# Altium footprint library EEM_FMC_Carrier.PcbLib: 109 footprints (part 2 of 7)
Each footprint in its own frame and in the unit in brackets; x right, y up, seen from the top. Pads: shape width x height; smd on the part's side, far side on the other; paste and mask are expansions set on the pad; w line width, h text height; cw(c..) or ccw(c..) is an arc to the next point about the centre after c.
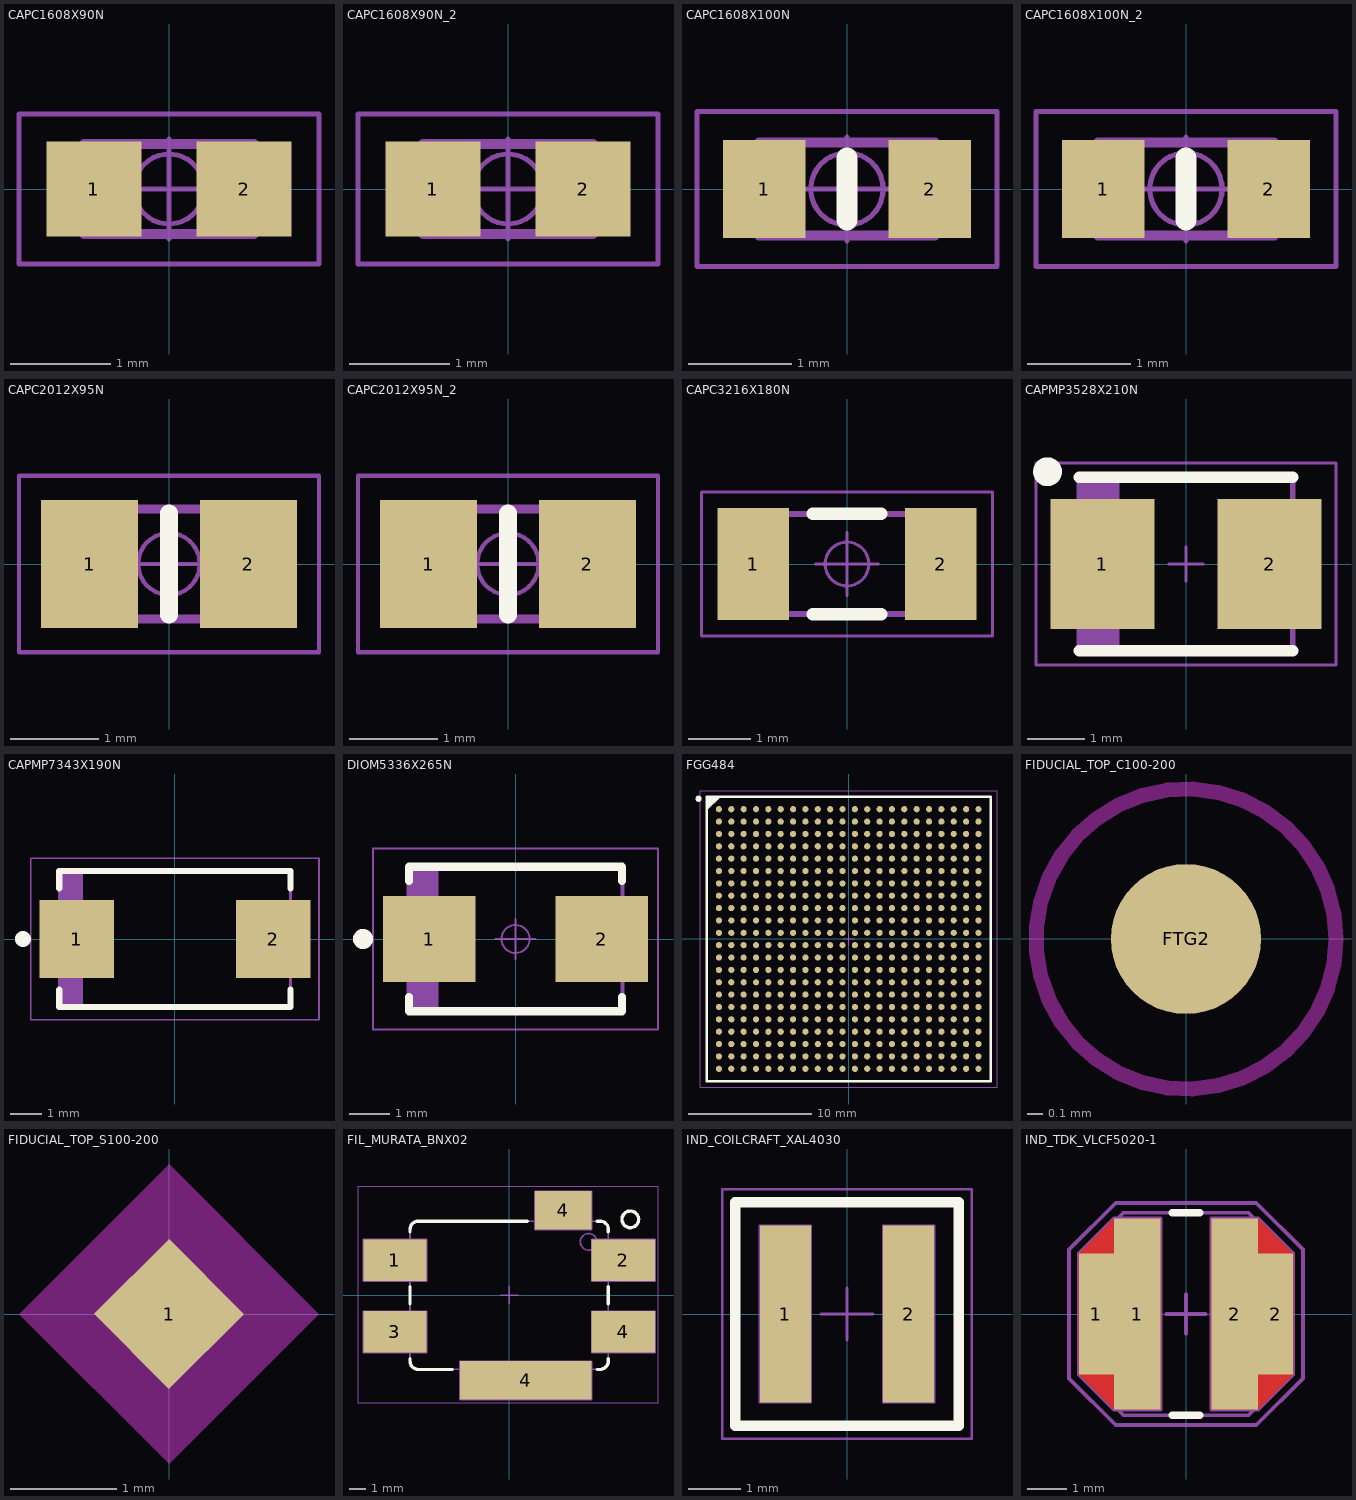
[diagram p1: the footprints below, top view; thin cyan lines are the x and y axes]

## CAPC1608X90N [mm]
pads (2):
  rect 0.95x0.95 smd: 1(-0.75,0) 2(0.75,0)
Mechanical 14:
  lines w0.1: -0.85,-0.45 -0.85,0.45 0.85,0.45 0.85,-0.45 -0.85,-0.45
Mechanical 15:
  circle w0.05: c0,0 r0.35
  lines w0.05: -0.5,0 0.5,0 ; 0,-0.5 0,0.5 ; -1.5,-0.75 -1.5,0.75 1.5,0.75 1.5,-0.75 -1.5,-0.75
3D body "CAPC1608X90N.stp": height 0.9, standoff 0, extent -0.85,-0.45 0.85,0.45

## CAPC1608X90N_2 [mm]
pads (2):
  rect 0.95x0.95 smd: 1(-0.75,0) 2(0.75,0)
Mechanical 14:
  lines w0.1: -0.85,-0.45 -0.85,0.45 0.85,0.45 0.85,-0.45 -0.85,-0.45
Mechanical 15:
  circle w0.05: c0,0 r0.35
  lines w0.05: -0.5,0 0.5,0 ; 0,-0.5 0,0.5 ; -1.5,-0.75 -1.5,0.75 1.5,0.75 1.5,-0.75 -1.5,-0.75
3D body "CAPC1608X90N.stp": height 0.9, standoff 0, extent -0.85,-0.45 0.85,0.45

## CAPC1608X100N [mm]
pads (2):
  rect 0.8x0.95 smd: 1(-0.8,0) 2(0.8,0)
Top Overlay:
  lines w0.2: 0,-0.3 0,0.3
Mechanical 14:
  lines w0.1: -0.85,-0.45 -0.85,0.45 0.85,0.45 0.85,-0.45 -0.85,-0.45
Mechanical 15:
  circle w0.05: c0,0 r0.35
  lines w0.05: -0.5,0 0.5,0 ; 0,-0.5 0,0.5 ; -1.45,-0.75 -1.45,0.75 1.45,0.75 1.45,-0.75 -1.45,-0.75
3D body "CAPC1608X100N.stp": height 1, standoff 0, extent -0.85,-0.45 0.85,0.45

## CAPC1608X100N_2 [mm]
pads (2):
  rect 0.8x0.95 smd: 1(-0.8,0) 2(0.8,0)
Top Overlay:
  lines w0.2: 0,-0.3 0,0.3
Mechanical 14:
  lines w0.1: -0.85,-0.45 0.85,-0.45 0.85,0.45 -0.85,0.45 -0.85,-0.45
Mechanical 15:
  circle w0.05: c0,0 r0.35
  lines w0.05: -0.5,0 0.5,0 ; 0,-0.5 0,0.5 ; -1.45,-0.75 1.45,-0.75 1.45,0.75 -1.45,0.75 -1.45,-0.75
3D body "CAPC1608X100N.stp": height 1, standoff 0, extent -0.85,-0.45 0.85,0.45

## CAPC2012X95N [mm]
pads (2):
  rect 1.1x1.45 smd: 1(-0.9,0) 2(0.9,0)
Top Overlay:
  lines w0.2: 0,-0.575 0,0.575
Mechanical 14:
  lines w0.1: -1,-0.625 1,-0.625 1,0.625 -1,0.625 -1,-0.625
Mechanical 15:
  circle w0.05: c0,0 r0.35
  lines w0.05: -0.5,0 0.5,0 ; 0,-0.5 0,0.5 ; -1.7,-1 1.7,-1 1.7,1 -1.7,1 -1.7,-1
3D body "CAPC2012X95N.stp": height 0.95, standoff 0, extent -1.05,-0.675 1.05,0.675

## CAPC2012X95N_2 [mm]
pads (2):
  rect 1.1x1.45 smd: 1(-0.9,0) 2(0.9,0)
Top Overlay:
  lines w0.2: 0,-0.575 0,0.575
Mechanical 14:
  lines w0.1: -1,-0.625 1,-0.625 1,0.625 -1,0.625 -1,-0.625
Mechanical 15:
  circle w0.05: c0,0 r0.35
  lines w0.05: -0.5,0 0.5,0 ; 0,-0.5 0,0.5 ; -1.7,-1 1.7,-1 1.7,1 -1.7,1 -1.7,-1
3D body "CAPC2012X95N.stp": height 0.95, standoff 0, extent -1.05,-0.675 1.05,0.675

## CAPC3216X180N [mm]
pads (2):
  rect 1.15x1.8 smd: 1(-1.5,0) 2(1.5,0)
Top Overlay:
  lines w0.2: -0.55,-0.8 0.55,-0.8 ; -0.55,0.8 0.55,0.8
Mechanical 14:
  lines w0.1: -1.6,-0.8 1.6,-0.8 1.6,0.8 -1.6,0.8 -1.6,-0.8
Mechanical 15:
  circle w0.05: c0,0 r0.35
  lines w0.05: -0.5,0 0.5,0 ; 0,-0.5 0,0.5 ; -2.325,-1.15 2.325,-1.15 2.325,1.15 -2.325,1.15 -2.325,-1.15
3D body "CAPC3216X180N.stp": height 1.8, standoff 0, extent -1.7,-0.9 1.7,0.9

## CAPMP3528X210N [mm]
pads (2):
  rect 1.8x2.25 smd: 1(-1.45,0) 2(1.45,0)
Top Overlay:
  circle w0.25: c-2.4,1.6 r0.125
  lines w0.2: -1.85,-1.5 1.85,-1.5 ; -1.85,1.5 1.85,1.5
Mechanical 14:
  lines w0.1: -1.8,-1.5 -1.8,1.5 ; -1.725,-1.5 -1.725,1.5 ; -1.65,-1.5 -1.65,1.5 ; -1.575,-1.5 -1.575,1.5 ; -1.5,-1.5 -1.5,1.5 ; -1.425,-1.5 -1.425,1.5 ; -1.35,-1.5 -1.35,1.5 ; -1.275,-1.5 -1.275,1.5 ; -1.2,-1.5 -1.2,1.5 ; -1.85,-1.5 1.85,-1.5 1.85,1.5 -1.85,1.5 -1.85,-1.5
Mechanical 15:
  lines w0.05: -0.3,0 0.3,0 ; 0,-0.3 0,0.3 ; -2.6,-1.75 -2.6,1.75 2.6,1.75 2.6,-1.75 -2.6,-1.75
3D body "CAPMP3528X210N.stp": height 2.1, standoff 0, extent -1.85,-1.5 1.85,1.5

## CAPMP7343X190N [mm]
pads (2):
  rect 2.35x2.45 smd: 1(-3.1,0) 2(3.1,0)
Top Overlay:
  circle w0.25: c-4.8,0 r0.125
  lines w0.2: -3.65,-1.6 -3.65,-2.15 3.65,-2.15 3.65,-1.6 ; -3.65,1.6 -3.65,2.15 3.65,2.15 3.65,1.6
Mechanical 14:
  lines w0.1: -3.55,-2.15 -3.55,2.15 ; -3.45,-2.15 -3.45,2.15 ; -3.35,-2.15 -3.35,2.15 ; -3.25,-2.15 -3.25,2.15 ; -3.15,-2.15 -3.15,2.15 ; -3.05,-2.15 -3.05,2.15 ; -2.95,-2.15 -2.95,2.15 ; -3.65,-2.15 -3.65,2.15 ; -3.65,-2.15 -3.65,2.15 ; -3.65,-2.15 3.65,-2.15 3.65,2.15 -3.65,2.15
Mechanical 15:
  lines w0.05: -4.55,-2.55 -4.55,2.55 4.55,2.55 4.55,-2.55 -4.55,-2.55
3D body "CAPMP7343X190N.stp": height 1.9, standoff 0, extent -3.8,-2.3 3.8,2.3

## DIOM5336X265N [mm]
pads (2):
  rect 2.3x2.15 smd: 1(-2.15,0) 2(2.15,0)
Top Overlay:
  circle w0.25: c-3.8,0 r0.125
  lines w0.2: -2.65,-1.45 -2.65,-1.8 2.65,-1.8 2.65,-1.45 ; -2.65,1.45 -2.65,1.8 2.65,1.8 2.65,1.45
Mechanical 14:
  lines w0.1: -2.57,-1.812 -2.57,1.812 ; -2.47,-1.812 -2.47,1.812 ; -2.37,-1.812 -2.37,1.812 ; -2.27,-1.812 -2.27,1.812 ; -2.17,-1.812 -2.17,1.812 ; -2.07,-1.812 -2.07,1.812 ; -1.97,-1.812 -1.97,1.812 ; -2.67,-1.812 -2.67,1.812 ; -2.67,-1.812 -2.67,1.812 ; -2.67,-1.812 2.67,-1.812 2.67,1.812 -2.67,1.812
Mechanical 15:
  circle w0.05: c0,0 r0.35
  lines w0.05: -0.5,0 0.5,0 ; 0,-0.5 0,0.5 ; -3.55,-2.25 -3.55,2.25 3.55,2.25 3.55,-2.25 -3.55,-2.25
3D body "DIOM5336X240N.stp": height 2.4, standoff 0, extent -2.7,-1.95 2.7,1.95

## FGG484 [mm]
pads (484):
  round 0.5 smd: A1(-10.5,10.5) A2(-9.5,10.5) A3(-8.5,10.5) A4(-7.5,10.5) A5(-6.5,10.5) A6(-5.5,10.5) A7(-4.5,10.5) A8(-3.5,10.5) A9(-2.5,10.5) A10(-1.5,10.5) A11(-0.5,10.5) A12(0.5,10.5) A13(1.5,10.5) A14(2.5,10.5) A15(3.5,10.5) A16(4.5,10.5) A17(5.5,10.5) A18(6.5,10.5) A19(7.5,10.5) A20(8.5,10.5) A21(9.5,10.5) A22(10.5,10.5) AA1(-10.5,-9.5) AA2(-9.5,-9.5) AA3(-8.5,-9.5) AA4(-7.5,-9.5) AA5(-6.5,-9.5) AA6(-5.5,-9.5) AA7(-4.5,-9.5) AA8(-3.5,-9.5) AA9(-2.5,-9.5) AA10(-1.5,-9.5) AA11(-0.5,-9.5) AA12(0.5,-9.5) AA13(1.5,-9.5) AA14(2.5,-9.5) AA15(3.5,-9.5) AA16(4.5,-9.5) AA17(5.5,-9.5) AA18(6.5,-9.5) AA19(7.5,-9.5) AA20(8.5,-9.5) AA21(9.5,-9.5) AA22(10.5,-9.5) AB1(-10.5,-10.5) AB2(-9.5,-10.5) AB3(-8.5,-10.5) AB4(-7.5,-10.5) AB5(-6.5,-10.5) AB6(-5.5,-10.5) AB7(-4.5,-10.5) AB8(-3.5,-10.5) AB9(-2.5,-10.5) AB10(-1.5,-10.5) AB11(-0.5,-10.5) AB12(0.5,-10.5) AB13(1.5,-10.5) AB14(2.5,-10.5) AB15(3.5,-10.5) AB16(4.5,-10.5) AB17(5.5,-10.5) AB18(6.5,-10.5) AB19(7.5,-10.5) AB20(8.5,-10.5) AB21(9.5,-10.5) AB22(10.5,-10.5) B1(-10.5,9.5) B2(-9.5,9.5) B3(-8.5,9.5) B4(-7.5,9.5) B5(-6.5,9.5) B6(-5.5,9.5) B7(-4.5,9.5) B8(-3.5,9.5) B9(-2.5,9.5) B10(-1.5,9.5) B11(-0.5,9.5) B12(0.5,9.5) B13(1.5,9.5) B14(2.5,9.5) B15(3.5,9.5) B16(4.5,9.5) B17(5.5,9.5) B18(6.5,9.5) B19(7.5,9.5) B20(8.5,9.5) B21(9.5,9.5) B22(10.5,9.5) C1(-10.5,8.5) C2(-9.5,8.5) C3(-8.5,8.5) C4(-7.5,8.5) C5(-6.5,8.5) C6(-5.5,8.5) C7(-4.5,8.5) C8(-3.5,8.5) C9(-2.5,8.5) C10(-1.5,8.5) C11(-0.5,8.5) C12(0.5,8.5) C13(1.5,8.5) C14(2.5,8.5) C15(3.5,8.5) C16(4.5,8.5) C17(5.5,8.5) C18(6.5,8.5) C19(7.5,8.5) C20(8.5,8.5) C21(9.5,8.5) C22(10.5,8.5) D1(-10.5,7.5) D2(-9.5,7.5) D3(-8.5,7.5) D4(-7.5,7.5) D5(-6.5,7.5) D6(-5.5,7.5) D7(-4.5,7.5) D8(-3.5,7.5) D9(-2.5,7.5) D10(-1.5,7.5) D11(-0.5,7.5) D12(0.5,7.5) D13(1.5,7.5) D14(2.5,7.5) D15(3.5,7.5) D16(4.5,7.5) D17(5.5,7.5) D18(6.5,7.5) D19(7.5,7.5) D20(8.5,7.5) D21(9.5,7.5) D22(10.5,7.5) E1(-10.5,6.5) E2(-9.5,6.5) E3(-8.5,6.5) E4(-7.5,6.5) E5(-6.5,6.5) E6(-5.5,6.5) E7(-4.5,6.5) E8(-3.5,6.5) E9(-2.5,6.5) E10(-1.5,6.5) E11(-0.5,6.5) E12(0.5,6.5) E13(1.5,6.5) E14(2.5,6.5) E15(3.5,6.5) E16(4.5,6.5) E17(5.5,6.5) E18(6.5,6.5) E19(7.5,6.5) E20(8.5,6.5) E21(9.5,6.5) E22(10.5,6.5) F1(-10.5,5.5) F2(-9.5,5.5) F3(-8.5,5.5) F4(-7.5,5.5) F5(-6.5,5.5) F6(-5.5,5.5) F7(-4.5,5.5) F8(-3.5,5.5) F9(-2.5,5.5) F10(-1.5,5.5) F11(-0.5,5.5) F12(0.5,5.5) F13(1.5,5.5) F14(2.5,5.5) F15(3.5,5.5) F16(4.5,5.5) F17(5.5,5.5) F18(6.5,5.5) F19(7.5,5.5) F20(8.5,5.5) F21(9.5,5.5) F22(10.5,5.5) G1(-10.5,4.5) G2(-9.5,4.5) G3(-8.5,4.5) G4(-7.5,4.5) G5(-6.5,4.5) G6(-5.5,4.5) G7(-4.5,4.5) G8(-3.5,4.5) G9(-2.5,4.5) G10(-1.5,4.5) G11(-0.5,4.5) G12(0.5,4.5) G13(1.5,4.5) G14(2.5,4.5) G15(3.5,4.5) G16(4.5,4.5) G17(5.5,4.5) G18(6.5,4.5) G19(7.5,4.5) G20(8.5,4.5) G21(9.5,4.5) G22(10.5,4.5) H1(-10.5,3.5) H2(-9.5,3.5) H3(-8.5,3.5) H4(-7.5,3.5) H5(-6.5,3.5) H6(-5.5,3.5) H7(-4.5,3.5) H8(-3.5,3.5) H9(-2.5,3.5) H10(-1.5,3.5) H11(-0.5,3.5) H12(0.5,3.5) H13(1.5,3.5) H14(2.5,3.5) H15(3.5,3.5) H16(4.5,3.5) H17(5.5,3.5) H18(6.5,3.5) H19(7.5,3.5) H20(8.5,3.5) H21(9.5,3.5) H22(10.5,3.5) J1(-10.5,2.5) J2(-9.5,2.5) J3(-8.5,2.5) J4(-7.5,2.5) J5(-6.5,2.5) J6(-5.5,2.5) J7(-4.5,2.5) J8(-3.5,2.5) J9(-2.5,2.5) J10(-1.5,2.5) J11(-0.5,2.5) J12(0.5,2.5) J13(1.5,2.5) J14(2.5,2.5) J15(3.5,2.5) J16(4.5,2.5) J17(5.5,2.5) J18(6.5,2.5) J19(7.5,2.5) J20(8.5,2.5) J21(9.5,2.5) J22(10.5,2.5) K1(-10.5,1.5) K2(-9.5,1.5) K3(-8.5,1.5) K4(-7.5,1.5) K5(-6.5,1.5) K6(-5.5,1.5) K7(-4.5,1.5) K8(-3.5,1.5) K9(-2.5,1.5) K10(-1.5,1.5) K11(-0.5,1.5) K12(0.5,1.5) K13(1.5,1.5) K14(2.5,1.5) K15(3.5,1.5) K16(4.5,1.5) K17(5.5,1.5) K18(6.5,1.5) K19(7.5,1.5) K20(8.5,1.5) K21(9.5,1.5) K22(10.5,1.5) L1(-10.5,0.5) L2(-9.5,0.5) L3(-8.5,0.5) L4(-7.5,0.5) L5(-6.5,0.5) L6(-5.5,0.5) L7(-4.5,0.5) L8(-3.5,0.5) L9(-2.5,0.5) L10(-1.5,0.5) L11(-0.5,0.5) L12(0.5,0.5) L13(1.5,0.5) L14(2.5,0.5) L15(3.5,0.5) L16(4.5,0.5) L17(5.5,0.5) L18(6.5,0.5) L19(7.5,0.5) L20(8.5,0.5) L21(9.5,0.5) L22(10.5,0.5) M1(-10.5,-0.5) M2(-9.5,-0.5) M3(-8.5,-0.5) M4(-7.5,-0.5) M5(-6.5,-0.5) M6(-5.5,-0.5) M7(-4.5,-0.5) M8(-3.5,-0.5) M9(-2.5,-0.5) M10(-1.5,-0.5) M11(-0.5,-0.5) M12(0.5,-0.5) M13(1.5,-0.5) M14(2.5,-0.5) M15(3.5,-0.5) M16(4.5,-0.5) M17(5.5,-0.5) M18(6.5,-0.5) M19(7.5,-0.5) M20(8.5,-0.5) M21(9.5,-0.5) M22(10.5,-0.5) N1(-10.5,-1.5) N2(-9.5,-1.5) N3(-8.5,-1.5) N4(-7.5,-1.5) N5(-6.5,-1.5) N6(-5.5,-1.5) N7(-4.5,-1.5) N8(-3.5,-1.5) N9(-2.5,-1.5) N10(-1.5,-1.5) N11(-0.5,-1.5) N12(0.5,-1.5) N13(1.5,-1.5) N14(2.5,-1.5) N15(3.5,-1.5) N16(4.5,-1.5) N17(5.5,-1.5) N18(6.5,-1.5) N19(7.5,-1.5) N20(8.5,-1.5) N21(9.5,-1.5) N22(10.5,-1.5) P1(-10.5,-2.5) P2(-9.5,-2.5) P3(-8.5,-2.5) P4(-7.5,-2.5) P5(-6.5,-2.5) P6(-5.5,-2.5) P7(-4.5,-2.5) P8(-3.5,-2.5) P9(-2.5,-2.5) P10(-1.5,-2.5) P11(-0.5,-2.5) P12(0.5,-2.5) P13(1.5,-2.5) P14(2.5,-2.5) P15(3.5,-2.5) P16(4.5,-2.5) P17(5.5,-2.5) P18(6.5,-2.5) P19(7.5,-2.5) P20(8.5,-2.5) P21(9.5,-2.5) P22(10.5,-2.5) R1(-10.5,-3.5) R2(-9.5,-3.5) R3(-8.5,-3.5) R4(-7.5,-3.5) R5(-6.5,-3.5) R6(-5.5,-3.5) R7(-4.5,-3.5) R8(-3.5,-3.5) R9(-2.5,-3.5) R10(-1.5,-3.5) R11(-0.5,-3.5) R12(0.5,-3.5) R13(1.5,-3.5) R14(2.5,-3.5) R15(3.5,-3.5) R16(4.5,-3.5) R17(5.5,-3.5) R18(6.5,-3.5) R19(7.5,-3.5) R20(8.5,-3.5) R21(9.5,-3.5) R22(10.5,-3.5) T1(-10.5,-4.5) T2(-9.5,-4.5) T3(-8.5,-4.5) T4(-7.5,-4.5) T5(-6.5,-4.5) T6(-5.5,-4.5) T7(-4.5,-4.5) T8(-3.5,-4.5) T9(-2.5,-4.5) T10(-1.5,-4.5) T11(-0.5,-4.5) T12(0.5,-4.5) T13(1.5,-4.5) T14(2.5,-4.5) T15(3.5,-4.5) T16(4.5,-4.5) T17(5.5,-4.5) T18(6.5,-4.5) T19(7.5,-4.5) T20(8.5,-4.5) T21(9.5,-4.5) T22(10.5,-4.5) U1(-10.5,-5.5) U2(-9.5,-5.5) U3(-8.5,-5.5) U4(-7.5,-5.5) U5(-6.5,-5.5) U6(-5.5,-5.5) U7(-4.5,-5.5) U8(-3.5,-5.5) U9(-2.5,-5.5) U10(-1.5,-5.5) U11(-0.5,-5.5) U12(0.5,-5.5) U13(1.5,-5.5) U14(2.5,-5.5) U15(3.5,-5.5) U16(4.5,-5.5) U17(5.5,-5.5) U18(6.5,-5.5) U19(7.5,-5.5) U20(8.5,-5.5) U21(9.5,-5.5) U22(10.5,-5.5) V1(-10.5,-6.5) V2(-9.5,-6.5) V3(-8.5,-6.5) V4(-7.5,-6.5) V5(-6.5,-6.5) V6(-5.5,-6.5) V7(-4.5,-6.5) V8(-3.5,-6.5) V9(-2.5,-6.5) V10(-1.5,-6.5) V11(-0.5,-6.5) V12(0.5,-6.5) V13(1.5,-6.5) V14(2.5,-6.5) V15(3.5,-6.5) V16(4.5,-6.5) V17(5.5,-6.5) V18(6.5,-6.5) V19(7.5,-6.5) V20(8.5,-6.5) V21(9.5,-6.5) V22(10.5,-6.5) W1(-10.5,-7.5) W2(-9.5,-7.5) W3(-8.5,-7.5) W4(-7.5,-7.5) W5(-6.5,-7.5) W6(-5.5,-7.5) W7(-4.5,-7.5) W8(-3.5,-7.5) W9(-2.5,-7.5) W10(-1.5,-7.5) W11(-0.5,-7.5) W12(0.5,-7.5) W13(1.5,-7.5) W14(2.5,-7.5) W15(3.5,-7.5) W16(4.5,-7.5) W17(5.5,-7.5) W18(6.5,-7.5) W19(7.5,-7.5) W20(8.5,-7.5) W21(9.5,-7.5) W22(10.5,-7.5) Y1(-10.5,-8.5) Y2(-9.5,-8.5) Y3(-8.5,-8.5) Y4(-7.5,-8.5) Y5(-6.5,-8.5) Y6(-5.5,-8.5) Y7(-4.5,-8.5) Y8(-3.5,-8.5) Y9(-2.5,-8.5) Y10(-1.5,-8.5) Y11(-0.5,-8.5) Y12(0.5,-8.5) Y13(1.5,-8.5) Y14(2.5,-8.5) Y15(3.5,-8.5) Y16(4.5,-8.5) Y17(5.5,-8.5) Y18(6.5,-8.5) Y19(7.5,-8.5) Y20(8.5,-8.5) Y21(9.5,-8.5) Y22(10.5,-8.5)
Top Overlay:
  circle w0.25: c-12.15,11.35 r0.125
  region: -10.5,11.5 -11.5,10.5 -11.5,11.5
  lines w0.2: -11.5,10.5 -10.5,11.5 ; -11.5,-11.5 -11.5,11.5 11.5,11.5 11.5,-11.5 -11.5,-11.5
Mechanical 13:
  lines w0.1: -11.5,-11.5 -11.5,11.5 11.5,11.5 11.5,-11.5 -11.5,-11.5
Mechanical 15:
  lines w0.05: -12,-12 -12,12 12,12 12,-12 -12,-12
  lines w0.1: -0.5,0 0.5,0 ; 0,-0.5 0,0.5
3D body: height 2.6, standoff 0.35, extent -11.5,-11.5 11.5,11.5

## FIDUCIAL_TOP_C100-200 [mm]
pads (1):
  round 1 smd paste-0.51 mask+0.5: FTG2(0,0)
Top Layer keep-out:
  circle w0.1: c0,0 r1

## FIDUCIAL_TOP_S100-200 [mm]
pads (1):
  rect 1x1 smd rot 45 paste-0.51 mask+0.5: 1(0,0)
Top Layer keep-out:
  region: 1.414,0 0,-1.414 -1.414,0 0,1.414

## FIL_MURATA_BNX02 [mm]
pads (6):
  rect 3.8x2.5 smd: 1(-6.85,2.1) 2(6.85,2.1) 3(-6.85,-2.2) 4(6.85,-2.2)
  rect 7.9x2.3 smd: 4(1,-5.1)
  rect 3.4x2.3 smd: 4(3.25,5.1)
Top Overlay:
  circle w0.2: c7.268,4.554 r0.5
  lines w0.2: -5.95,-3.8 -5.95,-3.95 ccw(c-5.45,-3.95) -5.45,-4.45 -3.42,-4.45 ; -5.95,-0.5 -5.95,0.5 ; -5.95,3.8 -5.95,3.95 cw(c-5.45,3.95) -5.45,4.45 1.08,4.45 ; 5.28,-4.45 5.45,-4.45 ccw(c5.45,-3.95) 5.95,-3.95 5.95,-3.8 ; 5.28,4.45 5.45,4.45 cw(c5.45,3.95) 5.95,3.95 5.95,3.8 ; 5.95,-0.5 5.95,0.5
Mechanical 8:
  lines w0.1: -7.35,-2.2 -6.85,-2.2 ; -7.35,2.1 -6.85,2.1 ; -6.85,-2.7 -6.85,-2.2 ; -6.85,-1.7 -6.85,-2.2 ; -6.85,1.6 -6.85,2.1 ; -6.85,2.6 -6.85,2.1 ; -6.35,-2.2 -6.85,-2.2 ; -6.35,2.1 -6.85,2.1 ; -0.5,0 0,0 ; 0,-0.5 0,0 ; 0,0.5 0,0 ; 0.5,-5.1 1,-5.1 ; 0.5,0 0,0 ; 1,-5.6 1,-5.1 ; 1,-4.6 1,-5.1 ; 1.5,-5.1 1,-5.1 ; 2.75,5.1 3.25,5.1 ; 3.25,4.6 3.25,5.1 ; 3.25,5.6 3.25,5.1 ; 3.75,5.1 3.25,5.1 ; 6.35,-2.2 6.85,-2.2 ; 6.35,2.1 6.85,2.1 ; 6.85,-2.7 6.85,-2.2 ; 6.85,-1.7 6.85,-2.2 ; 6.85,1.6 6.85,2.1 ; 6.85,2.6 6.85,2.1 ; 7.35,-2.2 6.85,-2.2 ; 7.35,2.1 6.85,2.1 ; -8.75,-3.45 -8.75,-0.95 -4.95,-0.95 -4.95,-3.45 -8.75,-3.45 ; -8.75,0.85 -4.95,0.85 -4.95,3.35 -8.75,3.35 -8.75,0.85 ; -2.95,-6.25 -2.95,-3.95 4.95,-3.95 4.95,-6.25 -2.95,-6.25 ; 1.55,3.95 4.95,3.95 4.95,6.25 1.55,6.25 1.55,3.95 ; 4.95,-3.45 8.75,-3.45 8.75,-0.95 4.95,-0.95 4.95,-3.45 ; 4.95,0.85 4.95,3.35 8.75,3.35 8.75,0.85 4.95,0.85
Mechanical 14:
  circle w0.1: c4.768,3.204 r0.5
  lines w0.1: -5.95,-2.75 -6.05,-2.75 -6.05,-1.45 -5.95,-1.45 ; -5.95,1.45 -6.05,1.45 -6.05,2.75 -5.95,2.75 ; -2.5,-4.45 -2.5,-4.55 4.5,-4.55 4.5,-4.45 ; 2,4.45 2,4.55 4.5,4.55 4.5,4.45 ; 5.95,-2.75 6.05,-2.75 6.05,-1.45 5.95,-1.45 ; 5.95,1.45 6.05,1.45 6.05,2.75 5.95,2.75 ; -5.95,-3.95 ccw(c-5.45,-3.95) -5.45,-4.45 5.45,-4.45 ccw(c5.45,-3.95) 5.95,-3.95 5.95,3.95 ccw(c5.45,3.95) 5.45,4.45 -5.45,4.45 ccw(c-5.45,3.95) -5.95,3.95 -5.95,-3.95
Mechanical 15:
  lines w0.05: -9.07,-6.45 8.93,-6.45 8.93,6.55 -9.07,6.55 -9.07,-6.45
3D body "FIL_MURATA_BNX02.stp": height 3.1, standoff 0, extent -6.05,-4.55 6.05,4.55

## IND_COILCRAFT_XAL4030 [mm]
pads (2):
  rect 0.98x3.4 smd: 1(-1.185,0) 2(1.185,0)
Top Overlay:
  lines w0.2: -2.15,-2.15 2.15,-2.15 2.15,2.15 -2.15,2.15 -2.15,-2.15
Mechanical 8:
  lines w0.05: -0.5,0 0,0 ; 0,-0.5 0,0 ; 0,0.5 0,0 ; 0.5,0 0,0 ; -1.675,-1.7 -1.185,0 -1.675,1.7 ; -1.675,-1.7 -0.695,-1.7 -0.695,1.7 -1.675,1.7 ; -1.675,-1.7 -1.675,1.7 ; 1.675,-1.7 1.185,0 1.675,1.7 ; 1.675,-1.7 0.695,-1.7 0.695,1.7 1.675,1.7 ; 1.675,-1.7 1.675,1.7
Mechanical 14:
  lines w0.1: -2.15,-2.15 2.15,-2.15 2.15,2.15 -2.15,2.15 -2.15,-2.15
Mechanical 15:
  lines w0.05: -2.4,-2.4 -2.4,2.4 2.4,2.4 2.4,-2.4 -2.4,-2.4
3D body "IND_COILCRAFT_XAL4030.stp": height 3.1, standoff 0, extent -2.15,-2.15 2.15,2.15

## IND_TDK_VLCF5020-1 [mm]
pads (4):
  rect 0.9x3.1 smd: 1(-2.3,0) 2(2.3,0)
  rect 1.2x4.9 smd: 1(-1.25,0) 2(1.25,0)
Top Layer:
  region: 2.75,1.55 1.85,2.45 0.65,2.45 0.65,-2.45 1.85,-2.45 2.75,-1.55
  region: -2.75,-1.55 -1.85,-2.45 -0.65,-2.45 -0.65,2.45 -1.85,2.45 -2.75,1.55
Top Overlay:
  lines w0.2: -0.35,-2.6 0.35,-2.6 ; -0.35,2.6 0.35,2.6
Mechanical 8:
  lines w0.1: -2.2,0 -1.7,0 ; -1.7,-0.5 -1.7,0 ; -1.7,0.5 -1.7,0 ; -1.25,-0.5 -1.25,0 ; -1.25,0.5 -1.25,0 ; -0.75,0 -1.25,0 ; -0.5,0 0,0 ; 0,-0.5 0,0 ; 0,0.5 0,0 ; 0.5,0 0,0 ; 0.75,0 1.25,0 ; 1.25,-0.5 1.25,0 ; 1.25,0.5 1.25,0 ; 1.7,-0.5 1.7,0 ; 1.7,0.5 1.7,0 ; 2.2,0 1.7,0 ; -2.75,-1.55 -1.85,-2.45 -0.65,-2.45 -0.65,2.45 -1.85,2.45 -2.75,1.55 -2.75,-1.55 ; 0.65,-2.45 1.85,-2.45 2.75,-1.55 2.75,1.55 1.85,2.45 0.65,2.45 0.65,-2.45
Mechanical 14:
  lines w0.1: -2.6,-1.6 -2.6,1.6 -1.6,2.6 1.6,2.6 2.6,1.6 2.6,-1.6 1.6,-2.6 -1.6,-2.6 -2.6,-1.6
Mechanical 15:
  lines w0.1: -3,-1.654 -1.804,-2.85 1.804,-2.85 3,-1.654 3,1.654 1.804,2.85 -1.804,2.85 -3,1.654 -3,-1.654
3D body "IND_TDK_VLCF5020-1.stp": height 2, standoff 0, extent -2.6,-2.6 2.6,2.6